# EAGLE library part RFM9X (library cots_dev)
RFM9x breakout from Adafruit (3070, 3071,3072,3073)
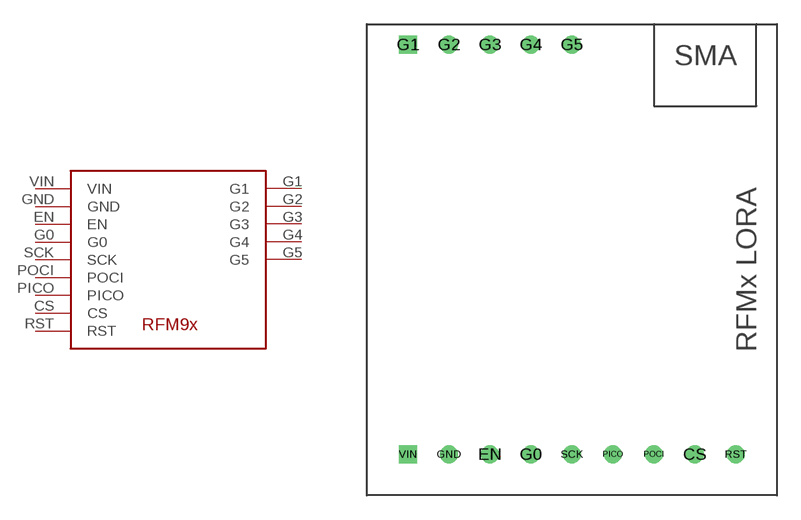
[diagram p1: symbol with the pads of RFM9X; footprint RFM9X]

Designator prefix -

## RFM9X  [RFM9X]
CS  CS
EN  EN
G0  G0
G1  G1
G2  G2
G3  G3
G4  G4
G5  G5
GND  GND
PICO  PICO
POCI  POCI
RST  RST
SCK  SCK
VIN  VIN

## Footprint RFM9X (pad centres in mm)
RFM9x layout for Adafruit (3070,3071,3072,3073)
drill 0.6: CS 20.32,2.54; EN 7.62,2.54; G0 10.16,2.54; G2 5.08,27.94; G3 7.62,27.94; G4 10.16,27.94; G5 12.7,27.94; GND 5.08,2.54; PICO 15.24,2.54; POCI 17.78,2.54; RST 22.86,2.54; SCK 12.7,2.54
drill 0.6 square: G1 2.54,27.94; VIN 2.54,2.54